# Altium footprint library PCB - POTENTIOMETER - BOURNS TRIMPOT 3299P.PCBLIB: 1 footprints
Each footprint in its own frame and in the unit in brackets; x right, y up, seen from the top. Pads: shape width x height; smd on the part's side, far side on the other; paste and mask are expansions set on the pad; w line width, h text height; cw(c..) or ccw(c..) is an arc to the next point about the centre after c.
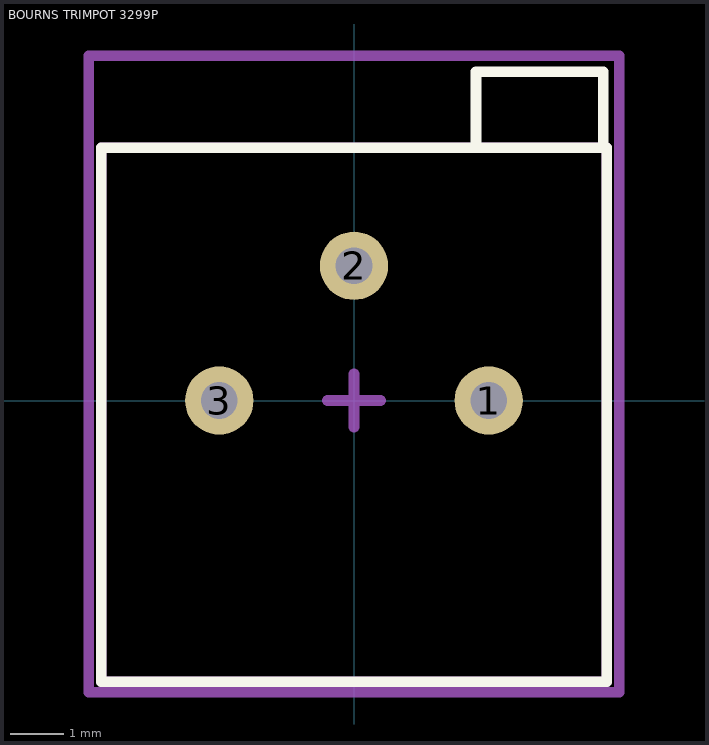
[diagram p0: the footprint, top view; thin cyan lines are the x and y axes]

## BOURNS TRIMPOT 3299P [mm] "3299 - 3/8 ˝ Square Trimpot® Trimming Potentiometer"
height 6.4
pads (3):
  round 1.29 hole 0.69: 1(2.54,0) 2(0,2.54) 3(-2.54,0)
Top Overlay:
  lines w0.2: 2.3,4.8 2.3,6.2 4.7,6.2 4.7,4.8 ; -4.765,-5.3 4.765,-5.3 4.765,4.765 -4.765,4.765 -4.765,-5.3
Top Assembly:
  lines w0.2: -0.5,0 0.5,0 ; 0,-0.5 0,0.5 ; -4.765,-5.3 -4.765,4.765 4.765,4.765 4.765,-5.3 -4.765,-5.3
Top Courtyard (Mech15):
  lines w0.2: -5,-5.5 5,-5.5 5,6.5 -5,6.5 -5,-5.5
3D body "Bourns 3299P.step": height 6.1, standoff -3, extent -4.763,-5.271 4.763,6.286